# Altium footprint library Controller-RK3562-PCB.PcbLib: 68 footprints (part 4 of 5)
Each footprint in its own frame and in the unit in brackets; x right, y up, seen from the top. Pads: shape width x height; smd on the part's side, far side on the other; paste and mask are expansions set on the pad; w line width, h text height; cw(c..) or ccw(c..) is an arc to the next point about the centre after c.
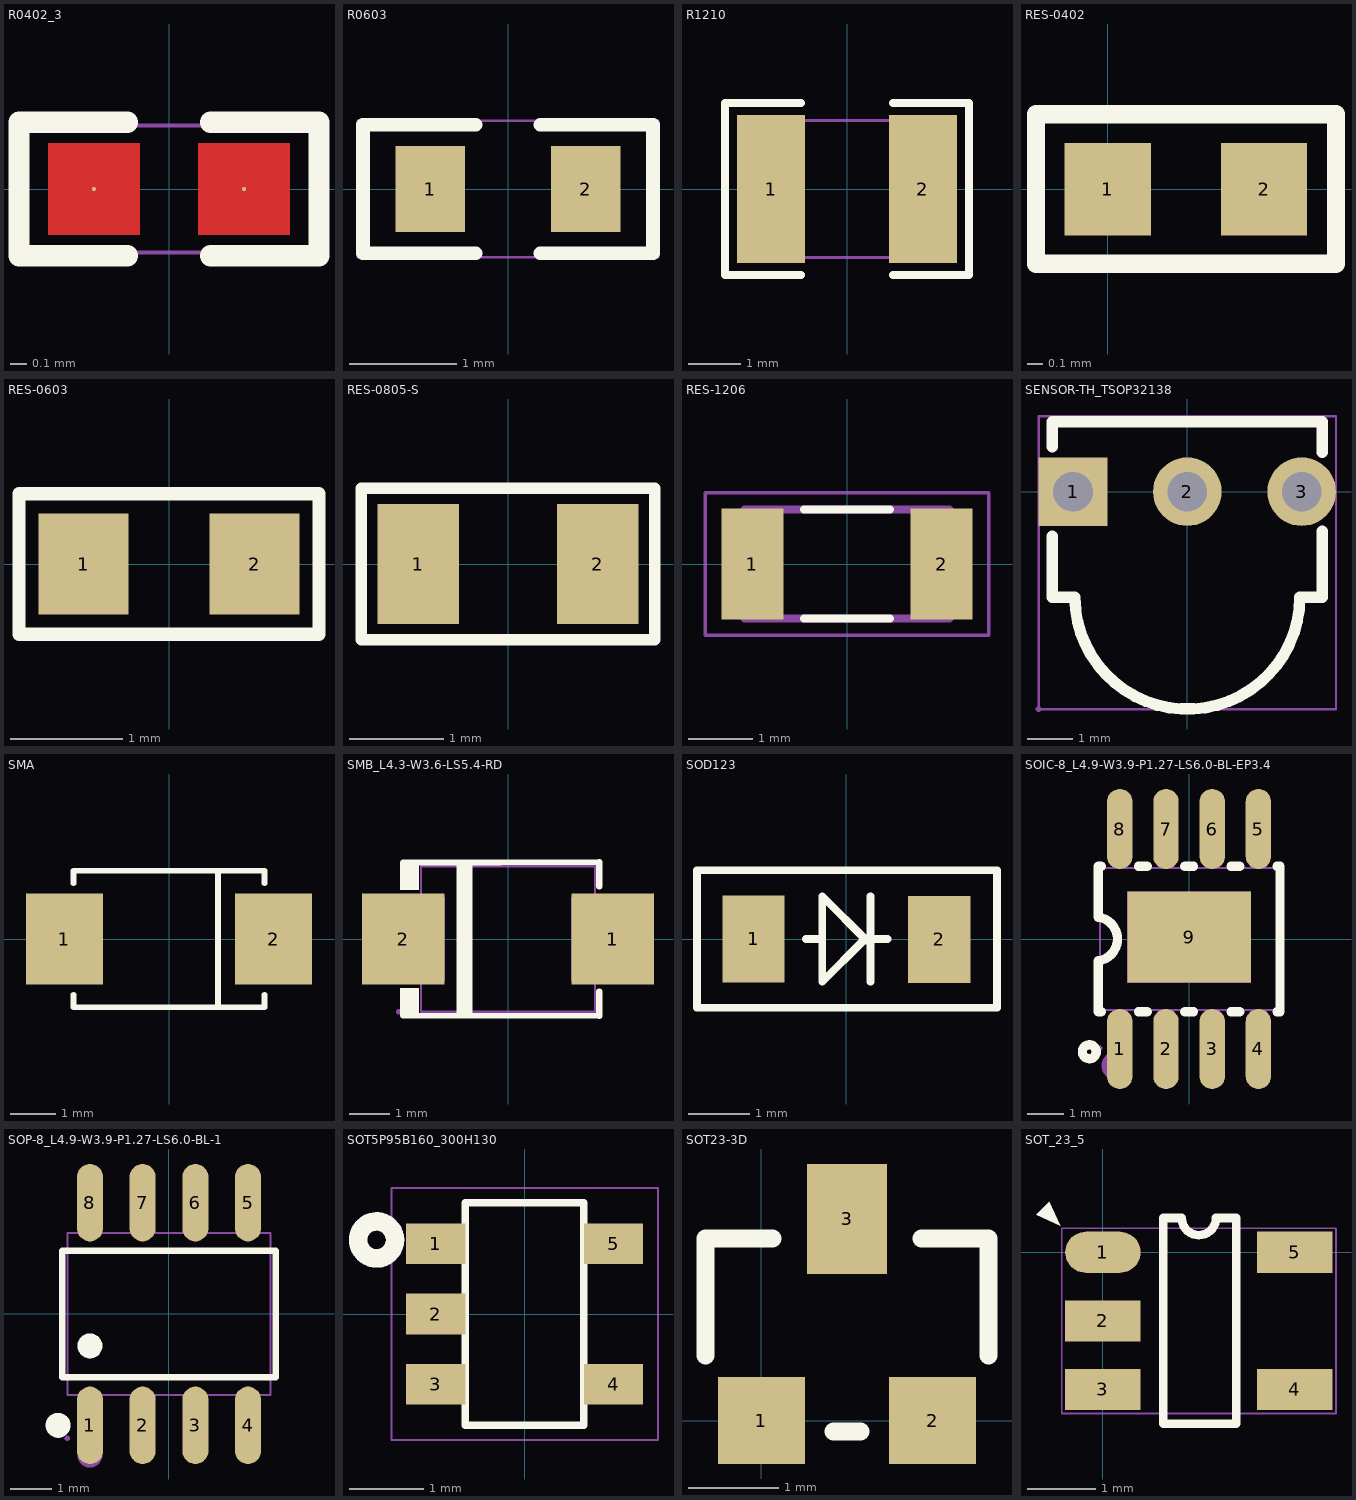
[diagram p3: the footprints below, top view; thin cyan lines are the x and y axes]

## R0402_3 [mil]
pads (2):
  round 1 smd: 1(-17.72,0) 2(17.72,0)
Top Layer:
  region: -6.89,10.83 -28.55,10.83 -28.55,-10.83 -6.89,-10.83
  region: 28.55,10.83 6.89,10.83 6.89,-10.83 28.55,-10.83
Top Overlay:
  lines w5: -9.84,-15.75 -35.43,-15.75 -35.43,15.75 -9.84,15.75 ; 9.84,-15.75 35.43,-15.75 35.43,15.75 9.84,15.75
Mechanical 10:
  text "2" at 17.72,4 h10
  text "1" at -17.72,4 h10
Top Assembly:
  lines w1: -35,-15 35,-15 35,15 -35,15 -35,-15
  text "0R" at -70,-5 h10
  text ".Designator" at -70,-5 h10
3D body "0402 resistor.STEP": height 13.78, standoff 0, extent -19.69,-10 19.69,9.69

## R0603 [mm] "R0603"
pads (2):
  rect 0.65x0.8 smd: 1(-0.725,0) 2(0.725,0)
Top Overlay:
  lines w0.127: -0.3,-0.6 -1.35,-0.6 -1.35,0.6 -0.3,0.6 ; 0.3,-0.6 1.35,-0.6 1.35,0.6 0.3,0.6
Mechanical 10:
  text "2" at 0.725,-0.102 h0.25
  text "1" at -0.725,-0.102 h0.25
Top Assembly:
  lines w0.025: -1.397,-0.635 -1.397,0.635 1.397,0.635 1.397,-0.635 -1.397,-0.635
3D body "0603 resistor.STEP": height 0.45, standoff 0, extent -0.8,-0.381 0.8,0.419

## R1210 [mm]
pads (2):
  rect 1.283x2.808 smd paste-100 mask+0.051: 1(-1.441,0) 2(1.441,0)
Top Overlay:
  lines w0.152: -0.876,-1.633 -2.311,-1.633 -2.311,1.633 -0.876,1.633 ; 0.876,-1.633 2.311,-1.633 2.311,1.633 0.876,1.633
Top Paste:
  region: -0.8,-1.304 -0.8,-0.577 -0.9,-0.477 -1.136,-0.477 -1.236,-0.377 -1.236,0.377 -1.136,0.477 -0.9,0.477 -0.8,0.577 -0.8,1.304 -0.9,1.404 -1.983,1.404 -2.083,1.304 -2.083,-1.304 -1.983,-1.404 -0.9,-1.404
  region: 0.8,-1.304 0.8,-0.577 0.9,-0.477 1.136,-0.477 1.236,-0.377 1.236,0.377 1.136,0.477 0.9,0.477 0.8,0.577 0.8,1.304 0.9,1.404 1.983,1.404 2.083,1.304 2.083,-1.304 1.983,-1.404 0.9,-1.404
Top Component Center:
  region: 1.55,-1.3 1.55,1.3 1.05,1.3 1.05,-1.3
  region: -1.55,-1.3 -1.55,1.3 -1.05,1.3 -1.05,-1.3
Mechanical 6:
  lines w0.051: -1.55,-1.3 1.55,-1.3 1.55,1.3 -1.55,1.3 -1.55,-1.3
Bottom 3D Body:
  region: -1.49,-1.3 -1.49,-1.325 -1.525,-1.36 -1.575,-1.36 -1.61,-1.325 -1.61,-1.3 -1.61,-1.275 -1.575,-1.24 -1.525,-1.24 -1.49,-1.275 -1.49,-1.3
3D body "R1210.step": height 0.56, standoff 0.01, extent -1.613,-1.308 1.486,1.293

## RES-0402 [mm]
height 1.75
pads (2):
  rect 0.56x0.6 smd mask+0.07: 1(0,0) 2(1.016,0)
Top Overlay:
  lines w0.12: -0.467,-0.485 -0.467,0.487 1.483,0.487 1.483,-0.485 -0.467,-0.485
3D body "0402 resistor.STEP": height 0.35, standoff 0, extent 0.008,-0.254 1.008,0.246

## RES-0603 [mm]
height 1.75
pads (2):
  rect 0.8x0.9 smd: 1(-0.762,0) 2(0.762,0)
Top Overlay:
  lines w0.12: -1.337,-0.625 1.336,-0.625 1.336,0.625 -1.337,0.625 -1.337,-0.625
3D body "0603 resistor.STEP": height 0.45, standoff 0, extent -0.8,-0.381 0.8,0.419

## RES-0805-S [mm]
pads (2):
  rect 0.862x1.27 smd: 1(-0.95,0) 2(0.95,0)
Top Overlay:
  lines w0.12: -1.55,-0.8 1.55,-0.8 1.55,0.8 -1.55,0.8 -1.55,-0.8
3D body "RESC2012(0805).STEP": height 0.5, standoff 0, extent -1,-0.6 1,0.6

## RES-1206 [mm]
pads (2):
  rect 0.97x1.73 smd: 1(-1.48,0) 2(1.48,0)
Top Overlay:
  lines w0.127: -0.67,-0.85 0.67,-0.85 ; -0.67,0.85 0.67,0.85
Mechanical 13:
  lines w0.127: -1.6,-0.85 -1.6,0.85 1.6,0.85 1.6,-0.85 -1.6,-0.85
Mechanical 15:
  lines w0.05: -2.215,-1.115 -2.215,1.115 2.215,1.115 2.215,-1.115 -2.215,-1.115
3D body "step_temp.STEP": height 0.65, standoff 0, extent -1.55,-0.8 1.55,0.8

## SENSOR-TH_TSOP32138 [mil]
pads (3):
  rect 60x60 hole 34.65 paste-99999: 1(-100,0)
  round 60 hole 34.65 paste-99999: 2(0,0) 3(100,0)
Top Overlay:
  lines w10: -118.11,-39.1 -118.11,-92.52 -98.42,-92.52 ; -118.11,39.1 -118.11,61.02 118.11,61.02 118.11,34.64 ; -98.43,-92.52 ccw(c0,-91.75) 98.43,-92.52 ; 98.42,-92.52 118.11,-92.52 118.11,-34.64
Top Component Center:
  region: -86.61,0 -86.61,-2.66 -88.65,-7.58 -92.42,-11.35 -97.34,-13.39 -102.66,-13.39 -107.58,-11.35 -111.35,-7.58 -113.39,-2.66 -113.39,0 -113.39,2.66 -111.35,7.58 -107.58,11.35 -102.66,13.39 -97.34,13.39 -92.42,11.35 -88.65,7.58 -86.61,2.66 -86.61,0
  region: 13.39,0 13.39,-2.66 11.35,-7.58 7.58,-11.35 2.66,-13.39 -2.66,-13.39 -7.58,-11.35 -11.35,-7.58 -13.39,-2.66 -13.39,0 -13.39,2.66 -11.35,7.58 -7.58,11.35 -2.66,13.39 2.66,13.39 7.58,11.35 11.35,7.58 13.39,2.66 13.39,0
  region: 113.39,0 113.39,-2.66 111.35,-7.58 107.58,-11.35 102.66,-13.39 97.34,-13.39 92.42,-11.35 88.65,-7.58 86.61,-2.66 86.61,0 86.61,2.66 88.65,7.58 92.42,11.35 97.34,13.39 102.66,13.39 107.58,11.35 111.35,7.58 113.39,2.66 113.39,0
Mechanical 6:
  lines w2: -130,-190.18 130,-190.18 130,66.02 -130,66.02 -130,-190.18
Bottom 3D Body:
  region: -127.64,-190.18 -127.64,-191.16 -129.02,-192.54 -130.98,-192.54 -132.36,-191.16 -132.36,-190.18 -132.36,-189.2 -130.98,-187.82 -129.02,-187.82 -127.64,-189.2 -127.64,-190.18
3D body "TSOP32138.step": height 325.3, standoff -145.17, extent -118.13,-206.36 118.13,46

## SMA [mm]
height 1.75
pads (2):
  rect 1.7x2 smd: 1(-2.3,0) 2(2.3,0)
Top Overlay:
  lines w0.127: -2.1,-1.225 -2.1,-1.5 2.1,-1.5 2.1,-1.225 ; -2.1,1.225 -2.1,1.5 2.1,1.5 2.1,1.225 ; 1.08,-1.5 1.08,1.5
3D body "User Library-DO-214Aa SMA.step": height 2.4, standoff 0, extent -2.6,-1.3 2.6,1.3

## SMB_L4.3-W3.6-LS5.4-RD [mm]
pads (2):
  rect 2.047x2.241 smd paste+0.051: 1(2.591,0) 2(-2.591,0)
Top Overlay:
  region: -1.27,1.892 -1.27,-1.895 -0.889,-1.895 -0.889,1.893
  region: -2.667,1.905 -2.667,1.215 -2.21,1.215 -2.21,1.905
  region: -2.667,-1.905 -2.667,-1.215 -2.21,-1.215 -2.21,-1.905
  lines w0.152: -2.597,1.889 2.253,1.905 2.257,1.905 2.257,1.301 ; -2.593,-1.892 2.257,-1.905 2.257,-1.301
Mechanical 2:
  region: 1.771,-0.129 1.771,0.125 3.422,0.125 3.422,-0.129
  region: 2.724,-0.828 2.47,-0.828 2.47,0.823 2.724,0.823
  region: -3.492,-0.127 -3.492,0.127 -1.841,0.127 -1.841,-0.127
Top Component Center:
  region: 2.699,-1.037 1.56,-1.037 1.56,1.038 2.699,1.038
  region: -2.7,1.037 -1.56,1.037 -1.56,-1.037 -2.7,-1.037
Mechanical 6:
  lines w0.051: -2.15,-1.8 2.15,-1.8 2.15,1.8 -2.15,1.8 -2.15,-1.8
Bottom 3D Body:
  region: -2.64,-1.8 -2.64,-1.825 -2.675,-1.86 -2.725,-1.86 -2.76,-1.825 -2.76,-1.8 -2.76,-1.775 -2.725,-1.74 -2.675,-1.74 -2.64,-1.775 -2.64,-1.8
3D body "SMB.step": height 2.11, standoff 0.01, extent -2.687,-1.791 2.713,1.809

## SOD123 [mil] "SOD123; Chip Diode; Body  2.7 x 1.6 mm (LxW typ)"
height 53.15
pads (2):
  rect 40x56 smd: 1(-59.69,0.16) 2(59.69,-0.16)
Top Overlay:
  lines w5: -25.94,0.16 -15.62,0.16 ; 10.98,-0.83 -15.59,-27.4 -15.59,27.71 12.95,-0.83 ; 15.59,-27.4 15.59,27.72 ; 16.1,0.16 26.41,0.16 ; -96.1,-44.14 96.88,-44.14 96.88,44.45 -96.1,44.45 -96.1,-44.14
3D body "SOD123.STEP": height 50, standoff 0, extent -71.49,-31.34 74.17,31.65

## SOIC-8_L4.9-W3.9-P1.27-LS6.0-BL-EP3.4 [mm]
pads (9):
  oval 0.7x2.2 smd paste+0 mask+0.05: 1(-1.905,-3.023) 2(-0.635,-3.023) 3(0.635,-3.023) 4(1.905,-3.023) 5(1.905,3.023) 6(0.635,3.023) 7(-0.635,3.023) 8(-1.905,3.023)
  rect 3.4x2.5 smd paste+0 mask+0.05: 9(0,0.051)
Top Overlay:
  circle w0.254: c-2.743,-3.099 r0.191
  lines w0.254: -2.418,-2 -2.5,-2 -2.5,-0.6 ccw(c-2.572,0) -2.499,0.599 -2.5,2 -2.418,2 ; -1.392,-2 -1.148,-2 ; -1.392,2 -1.148,2 ; -0.122,-2 0.122,-2 ; -0.122,2 0.122,2 ; 1.148,-2 1.392,-2 ; 1.148,2 1.392,2 ; 2.418,-2 2.5,-2 2.5,2 2.418,2
Mechanical 2:
  circle w0.4: c-2.007,-3.48 r0.2
Top Component Center:
  region: 1.695,2.2 1.695,3 2.115,3 2.115,2.2
  region: 0.425,2.2 0.425,3 0.845,3 0.845,2.2
  region: -0.845,2.2 -0.845,3 -0.425,3 -0.425,2.2
  region: -2.115,2.2 -2.115,3 -1.695,3 -1.695,2.2
  region: -2.115,-3 -2.115,-2.2 -1.695,-2.2 -1.695,-3
  region: -0.845,-3 -0.845,-2.2 -0.425,-2.2 -0.425,-3
  region: 0.425,-3 0.425,-2.2 0.845,-2.2 0.845,-3
  region: 1.695,-3 1.695,-2.2 2.115,-2.2 2.115,-3
  region: -1.7,1.301 1.7,1.301 1.7,-1.199 -1.7,-1.199
Mechanical 6:
  lines w0.051: -2.45,-1.95 -2.45,1.95 2.45,1.95 2.45,-1.95 -2.45,-1.95
Top 3D Body:
  region: 1.695,1.94 1.695,2.21 2.115,2.21 2.115,1.94
  region: 0.425,1.94 0.425,2.21 0.845,2.21 0.845,1.94
  region: -0.845,1.94 -0.845,2.21 -0.425,2.21 -0.425,1.94
  region: -2.115,1.94 -2.115,2.21 -1.695,2.21 -1.695,1.94
  region: -2.115,-2.21 -2.115,-1.94 -1.695,-1.94 -1.695,-2.21
  region: -0.845,-2.21 -0.845,-1.94 -0.425,-1.94 -0.425,-2.21
  region: 0.425,-2.21 0.425,-1.94 0.845,-1.94 0.845,-2.21
  region: 1.695,-2.21 1.695,-1.94 2.115,-1.94 2.115,-2.21
Bottom 3D Body:
  region: -2.39,-3 -2.39,-3.025 -2.425,-3.06 -2.475,-3.06 -2.51,-3.025 -2.51,-3 -2.51,-2.975 -2.475,-2.94 -2.425,-2.94 -2.39,-2.975 -2.39,-3
3D body "MAX3490EESA+T.STEP": height 1.73, standoff -0.2, extent -2.407,-3.018 2.408,3.038

## SOP-8_L4.9-W3.9-P1.27-LS6.0-BL-1 [mm]
pads (8):
  oval 0.63x1.865 smd paste+0.051: 1(-1.905,-2.683) 2(-0.635,-2.683) 3(0.635,-2.683) 4(1.905,-2.683) 5(1.905,2.682) 6(0.635,2.682) 7(-0.635,2.682) 8(-1.905,2.682)
Top Overlay:
  circle w0.3: c-1.905,-0.769 r0.15
  circle w0.3: c-2.672,-2.683 r0.15
  lines w0.152: -2.576,-1.521 2.576,-1.521 2.576,1.521 -2.576,1.521 -2.576,-1.521
Mechanical 2:
  circle w0.3: c-1.905,-3.4 r0.15
Top Component Center:
  region: 1.69,2.35 1.69,3 2.12,3 2.12,2.35
  region: 0.42,2.35 0.42,3 0.85,3 0.85,2.35
  region: -0.85,2.35 -0.85,3 -0.42,3 -0.42,2.35
  region: -2.12,2.35 -2.12,3 -1.69,3 -1.69,2.35
  region: 1.69,-3 1.69,-2.35 2.12,-2.35 2.12,-3
  region: 0.42,-3 0.42,-2.35 0.85,-2.35 0.85,-3
  region: -0.85,-3 -0.85,-2.35 -0.42,-2.35 -0.42,-3
  region: -2.12,-3 -2.12,-2.35 -1.69,-2.35 -1.69,-3
Mechanical 6:
  lines w0.051: -2.45,-1.95 2.45,-1.95 2.45,1.95 -2.45,1.95 -2.45,-1.95
Top 3D Body:
  region: 1.69,1.94 1.69,2.36 2.12,2.36 2.12,1.94
  region: 0.42,1.94 0.42,2.36 0.85,2.36 0.85,1.94
  region: -0.85,1.94 -0.85,2.36 -0.42,2.36 -0.42,1.94
  region: -2.12,1.94 -2.12,2.36 -1.69,2.36 -1.69,1.94
  region: 1.69,-2.36 1.69,-1.94 2.12,-1.94 2.12,-2.36
  region: 0.42,-2.36 0.42,-1.94 0.85,-1.94 0.85,-2.36
  region: -0.85,-2.36 -0.85,-1.94 -0.42,-1.94 -0.42,-2.36
  region: -2.12,-2.36 -2.12,-1.94 -1.69,-1.94 -1.69,-2.36
Bottom 3D Body:
  region: -2.39,-3 -2.39,-3.025 -2.425,-3.06 -2.475,-3.06 -2.51,-3.025 -2.51,-3 -2.51,-2.975 -2.475,-2.94 -2.425,-2.94 -2.39,-2.975 -2.39,-3
3D body "SOP-8.step": height 1.5, standoff 0, extent -2.451,-3.051 2.449,2.949

## SOT5P95B160_300H130 [mm] "SOT5P95B160_300H130"
pads (5):
  rect 0.8x0.55 smd: 1(-1.2,0.95) 2(-1.2,0) 3(-1.2,-0.95) 4(1.2,-0.95) 5(1.2,0.95)
Top Overlay:
  circle w0.25: c-2,1 r0.25
  lines w0.1: -0.8,-1.5 0.8,-1.5 0.8,1.5 -0.8,1.5 -0.8,-1.5
Top Assembly:
  lines w0.025: -1.8,-1.7 -1.8,1.7 1.8,1.7 1.8,-1.7 -1.8,-1.7
Mechanical 15:
  text "2" at -1.2,0.02 h0.3
  text "5" at 1.2,0.92 h0.3
  text "3" at -1.2,-0.93 h0.3
  text "4" at 1.2,-0.88 h0.3
  text "1" at -1.2,0.97 h0.3
3D body "DBV0005A.stp": height 1.2, standoff 0, extent -1.413,-1.45 1.387,1.45

## SOT23-3D [mm]
height 1.75
pads (3):
  rect 0.965x0.965 smd: 1(0,0) 2(1.9,0)
  rect 0.889x1.219 smd: 3(0.95,2.24)
Top Overlay:
  lines w0.2: -0.62,0.72 -0.62,2.02 0.125,2.02 ; 0.8,-0.119 1.1,-0.119 ; 1.775,2.02 2.52,2.02 2.52,0.72
3D body "DBZ0003A.stp": height 1, standoff 0, extent -0.51,-0.15 2.41,2.39

## SOT_23_5 [mm] "SOT_23_5"
pads (5):
  oval 1.1x0.6 smd: 1(0,0)
  rect 1.1x0.6 smd: 2(0,-1) 3(0,-2) 4(2.8,-2) 5(2.8,0)
Top Overlay:
  dashed: -0.784,0.74 -0.975,0.549 -0.624,0.389
  lines w0.127: 0.879,-2.5 1.947,-2.5 1.947,0.5 1.65,0.5 cw(c1.4,0.5) 1.15,0.5 0.879,0.5 0.879,-2.5
Top Assembly:
  lines w0.025: -0.6,-2.35 -0.6,0.35 3.4,0.35 3.4,-2.35 -0.6,-2.35
3D body "DBV0005A.stp": height 1.2, standoff 0, extent -0.066,-2.453 2.734,0.447